# Altium integrated library SSM3J338R_LF.IntLib: 1 symbol
Pins are listed as number, name and electrical type; pins without a type are passive.

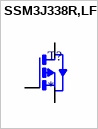
[diagram p0: symbol SSM3J338R,LF]

## SSM3J338R,LF
designator T?
P-Channel 12 V 6A (Ta) 1W (Ta) Surface Mount SOT-23F; MP: SSM3J338R,LF; MF: Toshiba Semiconductor and Storage; Availability: In Stock; SnapEDA_Link: https://www.snapeda.com/parts/SSM3J338R,LF/Toshiba+Semiconductor+and+Storage/view-part/?ref=snap; Value: *; Package: SOT-23-3 Toshiba Semiconductor and Storage; Price: None; Purchase-URL: https://pricing.snapeda.com/search/part/SSM3J338R,LF/?ref=eda; Check_prices: https://www.snapeda.com/parts/SSM3J338R,LF/Toshiba+Semiconductor+and+Storage/view-part/?ref=eda
footprint SSM3J338R,LF
pins: P$1 G, P$2 S, P$3 D